# EAGLE library part AD9833 (library LARS_409_MODULES)
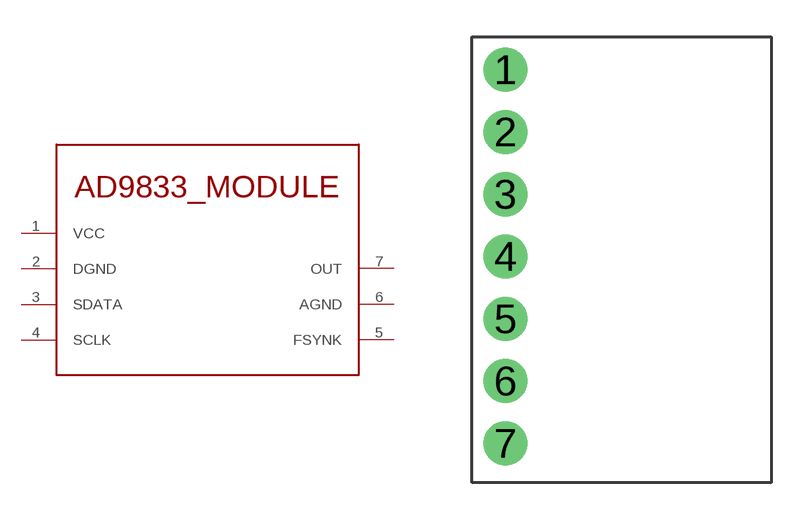
[diagram p5: symbol with the pads of AD9833; footprint AD9833]

Designator prefix -

## AD9833  [AD9833]
1  VCC
2  DGND
3  SDATA
4  SCLK
5  FSYNK
6  AGND
7  OUT

## Footprint AD9833 (pad centres in mm)
drill 1.2: 1 1.365,16.851; 2 1.365,14.311; 3 1.365,11.771; 4 1.365,9.231; 5 1.365,6.691; 6 1.365,4.151; 7 1.365,1.611